# EAGLE library part MENTOR1847.1032 (library 1A-meinLib)
Kippschalter, 2polig, Typ: 1847...., Mentor
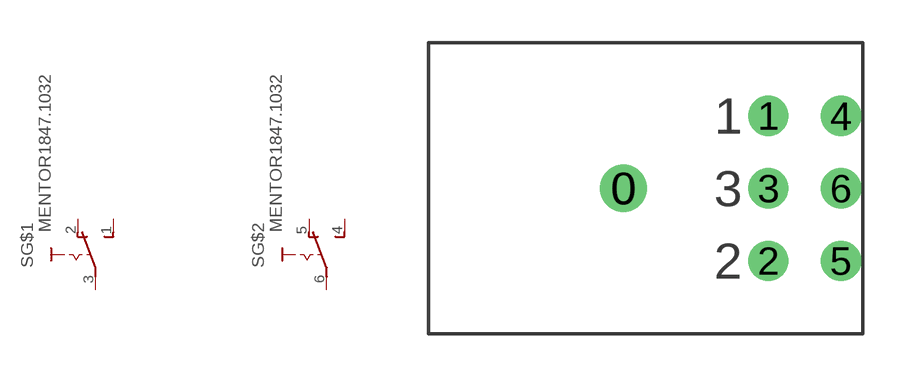
[diagram p327: symbol with the pads of MENTOR_1847-2POL; footprint MENTOR_1847-2POL]

Designator prefix S; gates G$1=SIS G$2=SIS

## MENTOR1847.1032  [MENTOR_1847-2POL]
1  G$1:S  pas
2  G$1:O  pas
3  G$1:P  pas
4  G$2:S  pas
5  G$2:O  pas
6  G$2:P  pas

## Footprint MENTOR_1847-2POL (pad centres in mm)
Kippschalter, 2polig, Typ: 1847...., Mentor
drill 1.1 round: 0 0,0
drill 0.9 round: 1 5.08,2.54; 2 5.08,-2.54; 3 5.08,0; 4 7.62,2.54; 5 7.62,-2.54; 6 7.62,0